# EAGLE library part 80R-JMDSS-G-1-TF (library 80R-JMDSS-G-1-TF)
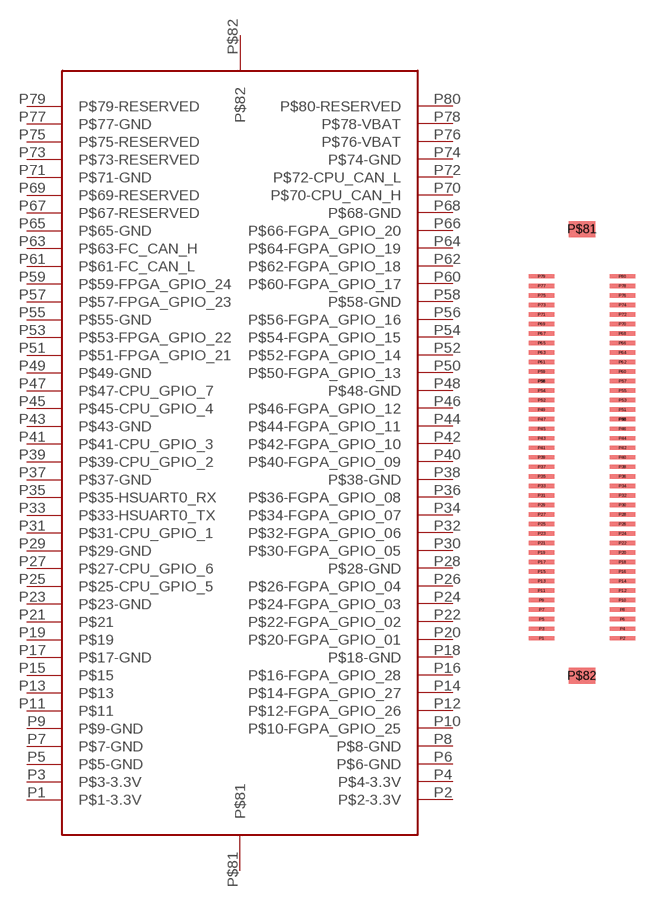
[diagram p0: symbol with the pads of 80R-JMDSS-G-TF; footprint 80R-JMDSS-G-TF]

Designator prefix -

## 80R-JMDSS-G-1-TF  [80R-JMDSS-G-TF]
P1  P$1-3.3V  pwr
P2  P$2-3.3V  pwr
P3  P$3-3.3V  pwr
P4  P$4-3.3V  pwr
P5  P$5-GND  pwr
P6  P$6-GND  pwr
P7  P$7-GND  pwr
P8  P$8-GND  pwr
P9  P$9-GND  pwr
P10  P$10-FGPA_GPIO_25
P11  P$11
P12  P$12-FGPA_GPIO_26
P13  P$13
P14  P$14-FGPA_GPIO_27
P15  P$15
P16  P$16-FGPA_GPIO_28
P17  P$17-GND  pwr
P18  P$18-GND  pwr
P19  P$19
P20  P$20-FGPA_GPIO_01
P21  P$21
P22  P$22-FGPA_GPIO_02
P23  P$23-GND  pwr
P24  P$24-FGPA_GPIO_03
P25  P$25-CPU_GPIO_5
P26  P$26-FGPA_GPIO_04
P27  P$27-CPU_GPIO_6
P28  P$28-GND  pwr
P29  P$29-GND  pwr
P30  P$30-FGPA_GPIO_05
P31  P$31-CPU_GPIO_1
P32  P$32-FGPA_GPIO_06
P33  P$33-HSUART0_TX
P34  P$34-FGPA_GPIO_07
P35  P$35-HSUART0_RX
P36  P$36-FGPA_GPIO_08
P37  P$37-GND  pwr
P38  P$38-GND  pwr
P39  P$39-CPU_GPIO_2
P40  P$40-FGPA_GPIO_09
P41  P$41-CPU_GPIO_3
P42  P$42-FGPA_GPIO_10
P43  P$43-GND  pwr
P44  P$44-FGPA_GPIO_11
P45  P$45-CPU_GPIO_4
P46  P$46-FGPA_GPIO_12
P47  P$47-CPU_GPIO_7
P48  P$48-GND  pwr
P49  P$49-GND  pwr
P50  P$50-FGPA_GPIO_13
P51  P$51-FPGA_GPIO_21
P52  P$52-FGPA_GPIO_14
P53  P$53-FPGA_GPIO_22
P54  P$54-FGPA_GPIO_15
P55  P$55-GND  pwr
P56  P$56-FGPA_GPIO_16
P57  P$57-FPGA_GPIO_23
P58  P$58-GND  pwr
P59  P$59-FPGA_GPIO_24
P60  P$60-FGPA_GPIO_17
P61  P$61-FC_CAN_L
P62  P$62-FGPA_GPIO_18
P63  P$63-FC_CAN_H
P64  P$64-FGPA_GPIO_19
P65  P$65-GND  pwr
P66  P$66-FGPA_GPIO_20
P67  P$67-RESERVED
P68  P$68-GND  pwr
P69  P$69-RESERVED
P70  P$70-CPU_CAN_H
P71  P$71-GND  pwr
P72  P$72-CPU_CAN_L
P73  P$73-RESERVED
P74  P$74-GND  pwr
P75  P$75-RESERVED
P76  P$76-VBAT  pwr
P77  P$77-GND  pwr
P78  P$78-VBAT  pwr
P79  P$79-RESERVED
P80  P$80-RESERVED
P$81  P$81
P$82  P$82

## Footprint 80R-JMDSS-G-TF (pad centres in mm)
smd 1.35 x 0.23: P1 2.1,-2.99; P2 6.35,-2.99; P3 2.1,-2.49; P4 6.35,-2.49; P5 2.1,-1.99; P6 6.35,-1.99; P7 2.1,-1.49; P8 6.35,-1.49; P9 2.1,-0.99; P10 6.35,-0.99; P11 2.1,-0.49; P12 6.35,-0.49; P13 2.1,0.01; P14 6.35,0.01; P15 2.1,0.51; P16 6.35,0.51; P17 2.1,1.01; P18 6.35,1.01; P19 2.1,1.51; P20 6.35,1.51; P21 2.1,2.01; P22 6.35,2.01; P23 2.1,2.51; P24 6.35,2.51; P25 2.1,3.01; P26 6.35,3.01; P27 2.1,3.51; P28 6.35,3.51; P29 2.1,4.01; P30 6.35,4.01; P31 2.1,4.51; P32 6.35,4.51; P33 2.1,5.01; P34 6.35,5.01; P35 2.1,5.51; P36 6.35,5.51; P37 2.1,6.01; P38 6.35,6.01; P39 2.1,6.51; P40 6.35,6.51; P41 2.1,7.01; P42 6.35,7.01; P43 2.1,7.51; P44 6.35,7.51; P45 2.1,8.01; P46 6.35,8.01; P47 2.1,8.51; P48 6.35,8.51; P49 2.1,9.01; P50 6.35,8.51; P51 6.35,9.01; P52 2.1,9.51; P53 6.35,9.51; P54 2.1,10.01; P55 6.35,10.01; P56 2.1,10.51; P57 6.35,10.51; P58 2.1,10.51; P59 2.1,11.01; P60 6.35,11.01; P61 2.1,11.51; P62 6.35,11.51; P63 2.1,12.01; P64 6.35,12.01; P65 2.1,12.51; P66 6.35,12.51; P67 2.1,13.01; P68 6.35,13.01; P69 2.1,13.51; P70 6.35,13.51; P71 2.1,14.01; P72 6.35,14.01; P73 2.1,14.51; P74 6.35,14.51; P75 2.1,15.01; P76 6.35,15.01; P77 2.1,15.51; P78 6.35,15.51; P79 2.1,16.01; P80 6.35,16.01
smd 1.4 x 0.85: P$81 4.225,18.485; P$82 4.225,-4.965